# Altium integrated library TPD4E001.IntLib: 1 symbol
Pins are listed as number, name and electrical type; pins without a type are passive.

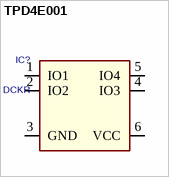
[diagram p0: symbol TPD4E001]

## TPD4E001
designator IC?, comment TPD4E001DCKR
PDF: http://www.ti.com/lit/ds/symlink/tpd4e001.pdf; ID: TPD4E001DCKR; BUY_LINK: http://www.digikey.com/product-detail/en/TPD4E001DCKR/296-28779-1-ND/2666521; PRICE: 0.49000
footprint SC70-6
pins: 1 IO1, 2 IO2, 3 GND, 4 IO3, 5 IO4, 6 VCC